# EAGLE library part BQ24650 (library CougsInSpace-IC-Power)
BQ24650 Solar Battery Charger BQ24650 <https://github.com/CougsInSpace/Resources/blob/master/SupplierDocuments/Ti/SolarBatteryCharger_BQ24650.pdf>
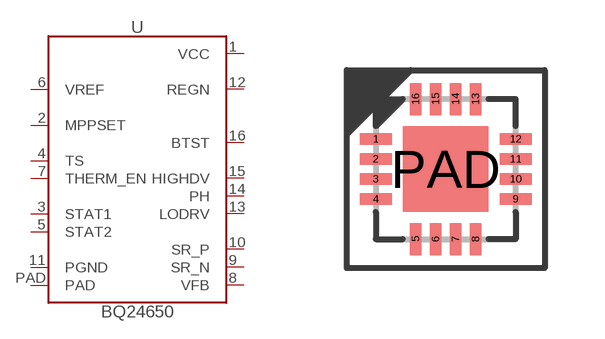
[diagram p6: symbol with the pads of QFN-16-3535; footprint QFN-16-3535]

Designator prefix U

## BQ24650 (SKU: 60-0008; VALUE: BQ24650)  [QFN-16-3535]
1  VCC  pwr
2  MPPSET  in
3  STAT1  out
4  TS  in
5  STAT2  out
6  VREF  in
7  THERM_EN  out
8  VFB  in
9  SR_N  in
10  SR_P  in
11  PGND  pwr
12  REGN  pwr
13  LODRV  out
14  PH  pwr
15  HIGHDV  out
16  BTST  pwr
PAD  PAD  pwr

## Footprint QFN-16-3535 (pad centres in mm)
Quad Flat No-Leads (QFN) - 16 pins - 3.5 x 3.5 mm
smd 0.8 x 0.28: 1 -1.75,0.75; 2 -1.75,0.25; 3 -1.75,-0.25; 4 -1.75,-0.75; 9 1.75,-0.75; 10 1.75,-0.25; 11 1.75,0.25; 12 1.75,0.75
smd 0.28 x 0.8: 5 -0.75,-1.75; 6 -0.25,-1.75; 7 0.25,-1.75; 8 0.75,-1.75; 13 0.75,1.75; 14 0.25,1.75; 15 -0.25,1.75; 16 -0.75,1.75
smd 2.14 x 2.14: PAD 0,0